# Altium footprint library SAMTEC SSQ-115-03-T-D.PCBLIB: 1 footprints
Each footprint in its own frame and in the unit in brackets; x right, y up, seen from the top. Pads: shape width x height; smd on the part's side, far side on the other; paste and mask are expansions set on the pad; w line width, h text height; cw(c..) or ccw(c..) is an arc to the next point about the centre after c.
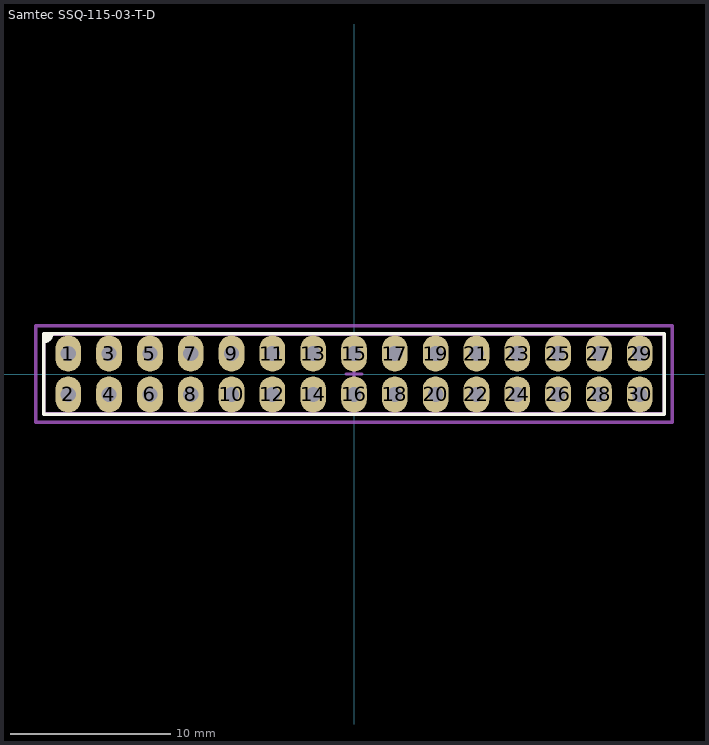
[diagram p0: the footprint, top view; thin cyan lines are the x and y axes]

## Samtec SSQ-115-03-T-D [mm]
height 8.51
pads (30):
  oval 1.6x2.25 hole 0.95: 1(-17.78,1.27) 2(-17.78,-1.27) 3(-15.24,1.27) 4(-15.24,-1.27) 5(-12.7,1.27) 6(-12.7,-1.27) 7(-10.16,1.27) 8(-10.16,-1.27) 9(-7.62,1.27) 10(-7.62,-1.27) 11(-5.08,1.27) 12(-5.08,-1.27) 13(-2.54,1.27) 14(-2.54,-1.27) 15(0,1.27) 16(0,-1.27) 17(2.54,1.27) 18(2.54,-1.27) 19(5.08,1.27) 20(5.08,-1.27) 21(7.62,1.27) 22(7.62,-1.27) 23(10.16,1.27) 24(10.16,-1.27) 25(12.7,1.27) 26(12.7,-1.27) 27(15.24,1.27) 28(15.24,-1.27) 29(17.78,1.27) 30(17.78,-1.27)
Top Overlay:
  region: -19.3,2.5 -18.8,2.5 -18.8,2.3 -19.1,2 -19.3,2
  lines w0.2: -19.3,2 ccw(c-19.3,2.5) -18.8,2.5 ; -19.3,-2.5 19.3,-2.5 19.3,2.5 -19.3,2.5 -19.3,-2.5
Mechanical 13:
  lines w0.2: -19.304,-2.476 -19.304,2.477 19.304,2.477 19.304,-2.476 -19.304,-2.476
Mechanical 15:
  lines w0.2: -0.5,0 0.5,0 ; 0,-0.5 0,0.5 ; -19.8,-3 -19.8,3 19.8,3 19.8,-3 -19.8,-3
3D body "Samtec SSQ-115-03-T-D.STEP": height 8.51, standoff -10.01, extent -19.304,-2.476 19.304,2.477